# EAGLE library part ACS712ELCTR-20A-T (library Allegro_By_element14_Batch_1)
Linear Current Sensor
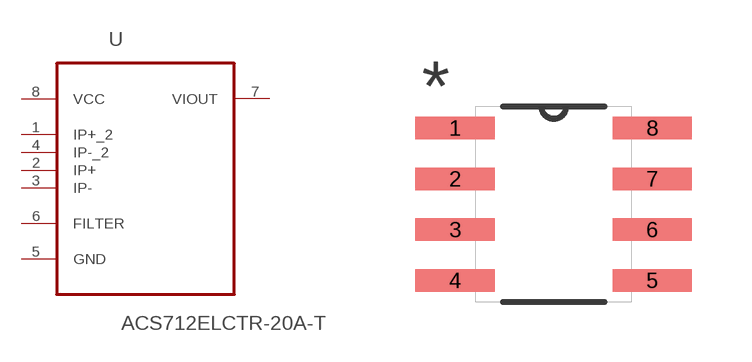
[diagram p33: symbol with the pads of SOIC127P600X175-8N; footprint SOIC127P600X175-8N]

Designator prefix U

## ACS712ELCTR-20A-T (MPN: ACS712ELCTR-20A-T; OC_FARNELL: 1329624; OC_NEWARK: 31M3133; PACKAGE: SOIC-8; SUPPLIER: Allegro)  [SOIC127P600X175-8N]
1  IP+_2  in
2  IP+  in
3  IP-  in
4  IP-_2  in
5  GND  pas
6  FILTER  in
7  VIOUT  out
8  VCC  pwr

## Footprint SOIC127P600X175-8N (pad centres in mm)
smd 1.981 x 0.559: 1 -2.464,1.905; 2 -2.464,0.635; 3 -2.464,-0.635; 4 -2.464,-1.905; 5 2.464,-1.905; 6 2.464,-0.635; 7 2.464,0.635; 8 2.464,1.905